# Altium footprint library PcbLib1.PcbLib: 1 footprints
Each footprint in its own frame and in the unit in brackets; x right, y up, seen from the top. Pads: shape width x height; smd on the part's side, far side on the other; paste and mask are expansions set on the pad; w line width, h text height; cw(c..) or ccw(c..) is an arc to the next point about the centre after c.
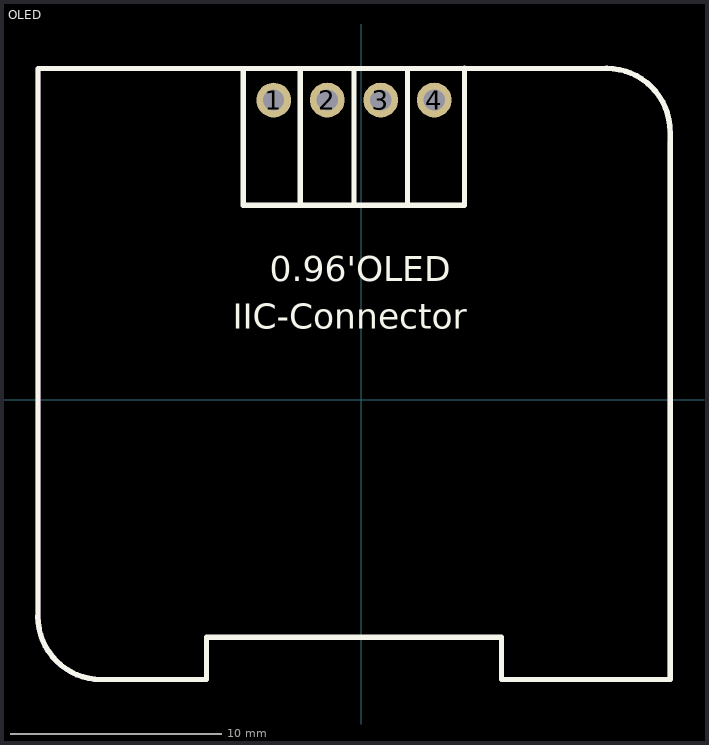
[diagram p0: the footprint, top view; thin cyan lines are the x and y axes]

## OLED [mm]
pads (4):
  round 1.65 hole 1 paste+0 mask+0.051: 1(-4.144,14.211) 2(-1.604,14.214) 3(0.936,14.214) 4(3.476,14.214)
Top Overlay:
  lines w0.254: -15.335,-10.288 ccw(c-12.335,-10.287) -12.336,-13.287 ; -15.333,-10.287 -15.333,15.713 11.663,15.713 ; -12.337,-13.287 -7.337,-13.287 -7.337,-11.288 6.663,-11.288 6.663,-13.286 14.667,-13.287 14.667,12.713 ; -5.586,9.213 2.767,9.212 4.913,9.213 ; -5.586,9.26 -5.586,15.713 ; -2.877,9.26 -2.877,15.61 ; -0.337,9.26 -0.337,15.713 ; 2.203,9.26 2.203,15.61 ; 4.913,9.26 4.913,15.715 ; 11.665,15.715 cw(c11.665,12.715) 14.665,12.712
  text "0.96'OLED" at -4.332,5.612 h1.2
  text "IIC-Connector" at -6.09,3.365 h1.2
Mechanical 15:
  region: -15.184,15.812 -15.184,15.612 11.666,15.612 11.856,15.606 12.232,15.556 12.598,15.458 12.949,15.313 13.277,15.123 13.578,14.892 13.846,14.624 14.077,14.323 14.267,13.995 14.412,13.644 14.51,13.278 14.56,12.902 14.566,12.712 14.766,12.712 14.766,12.915 14.713,13.318 14.608,13.711 14.452,14.086 14.249,14.438 14.002,14.76 13.714,15.048 13.392,15.295 13.04,15.498 12.665,15.654 12.272,15.759 11.869,15.812 11.666,15.812 11.616,15.812 -15.134,15.812
  region: -15.434,15.713 -15.434,-10.288 -15.434,-10.491 -15.381,-10.894 -15.276,-11.287 -15.12,-11.662 -14.917,-12.014 -14.67,-12.336 -14.382,-12.624 -14.06,-12.871 -13.708,-13.074 -13.333,-13.23 -12.94,-13.335 -12.537,-13.388 -12.334,-13.388 -7.334,-13.388 -7.314,-13.388 -7.277,-13.373 -7.249,-13.345 -7.234,-13.308 -7.234,-13.288 -7.234,-11.388 6.566,-11.388 6.566,-13.288 6.566,-13.308 6.581,-13.345 6.609,-13.373 6.646,-13.388 6.666,-13.388 14.666,-13.388 14.686,-13.388 14.723,-13.373 14.751,-13.345 14.766,-13.308 14.766,-13.288 14.766,12.212 14.566,12.212 14.566,-13.138 14.565,-13.148 14.558,-13.166 14.544,-13.18 14.526,-13.187 14.516,-13.188 6.816,-13.188 6.806,-13.187 6.788,-13.18 6.774,-13.166 6.767,-13.148 6.766,-13.138 6.766,-11.288 6.766,-11.268 6.751,-11.231 6.723,-11.203 6.686,-11.188 6.666,-11.188 -7.284,-11.188 -7.314,-11.188 -7.369,-11.211 -7.411,-11.253 -7.434,-11.308 -7.434,-11.338 -7.434,-13.138 -7.435,-13.148 -7.442,-13.166 -7.456,-13.18 -7.474,-13.187 -7.484,-13.188 -12.334,-13.188 -12.524,-13.182 -12.9,-13.132 -13.266,-13.034 -13.617,-12.889 -13.945,-12.699 -14.246,-12.468 -14.514,-12.2 -14.745,-11.899 -14.935,-11.571 -15.08,-11.22 -15.178,-10.854 -15.228,-10.478 -15.234,-10.288 -15.234,15.713